# EAGLE library part LOGIC,TRANSLATOR,PECL-TTL,DUAL (library QuantumOptics)
Dual (LV)PECL to TTL Translator, e.g. MC100EPT23D (SOIC8) or DT (MSSOP8).
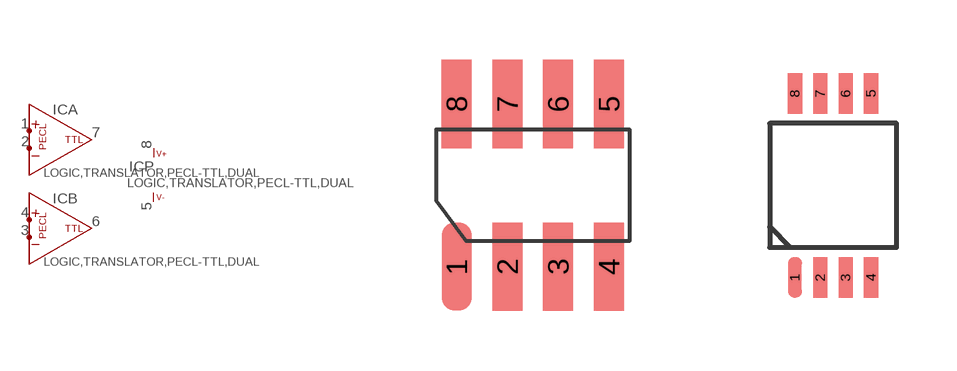
[diagram p151: symbol with the pads of SOIC-8; footprints SOIC-8, TSSOP-8]

Designator prefix IC; gates A=LOGIC,TRANSLATOR,LVPECL-TTL B=LOGIC,TRANSLATOR,LVPECL-TTL P=PWR+-

## LOGIC,TRANSLATOR,PECL-TTL,DUAL-SOIC8  [SOIC-8]
1  A:+IN  in
2  A:-IN  in
3  B:-IN  in
4  B:+IN  in
5  P:V-
6  B:Q  out
7  A:Q  out
8  P:V++

## LOGIC,TRANSLATOR,PECL-TTL,DUAL-TSSOP8  [TSSOP-8]
Pads as for SOIC-8

## Footprint SOIC-8 (pad centres in mm)
SOIC-8 (AKA SO-8), pads on 0.050" grid.
smd 0.75 x 2.2: 1 -1.905,-2.032; 2 -0.635,-2.032; 3 0.635,-2.032; 4 1.905,-2.032; 5 1.905,2.032; 6 0.635,2.032; 7 -0.635,2.032; 8 -1.905,2.032

## Footprint TSSOP-8 (pad centres in mm)
TSSOP-8, use 0.025" grid. Metric device but fits well on imperial.
smd 0.356 x 1.016: 1 -1.02,-2.3; 2 -0.385,-2.3; 3 0.25,-2.3; 4 0.885,-2.3; 5 0.885,2.3; 6 0.25,2.3; 7 -0.385,2.3; 8 -1.02,2.3